# Altium footprint library ESP-WROOM-32.PcbLib: 2 footprints
Each footprint in its own frame and in the unit in brackets; x right, y up, seen from the top. Pads: shape width x height; smd on the part's side, far side on the other; paste and mask are expansions set on the pad; w line width, h text height; cw(c..) or ccw(c..) is an arc to the next point about the centre after c.
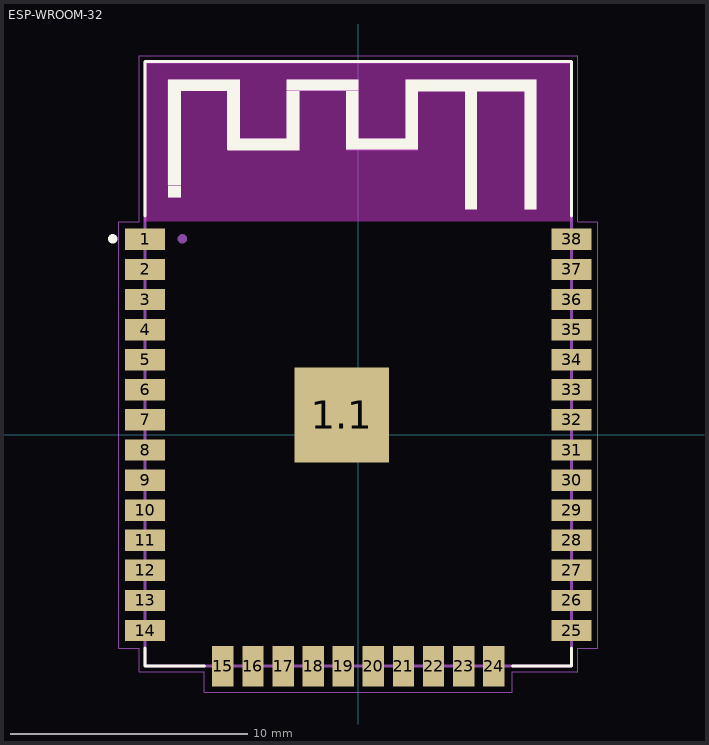
[diagram p0: the footprints below, top view; thin cyan lines are the x and y axes]

## ESP-WROOM-32 [mm]
pads (39):
  rect 1.7x0.9 smd: 1(-9,8.255) 2(-9,6.985) 3(-9,5.715) 4(-9,4.445) 5(-9,3.175) 6(-9,1.905) 7(-9,0.635) 8(-9,-0.635) 9(-9,-1.905) 10(-9,-3.175) 11(-9,-4.445) 12(-9,-5.715) 13(-9,-6.985) 14(-9,-8.255) 25(9,-8.255) 26(9,-6.985) 27(9,-5.715) 28(9,-4.445) 29(9,-3.175) 30(9,-1.905) 31(9,-0.635) 32(9,0.635) 33(9,1.905) 34(9,3.175) 35(9,4.445) 36(9,5.715) 37(9,6.985) 38(9,8.255)
  rect 4x4 smd: 1.1(-0.7,0.845)
  rect 0.9x1.7 smd: 15(-5.715,-9.755) 16(-4.445,-9.755) 17(-3.175,-9.755) 18(-1.905,-9.755) 19(-0.635,-9.755) 20(0.635,-9.755) 21(1.905,-9.755) 22(3.175,-9.755) 23(4.445,-9.755) 24(5.715,-9.755)
Top Overlay:
  circle w0.2: c-10.365,8.275 r0.1
  region: 2.008,15 2.5,15 2.5,13.554 2.008,13.554
  region: -8.02,10.5 -7.5,10.5 -7.5,10.025 -8.02,10.025
  region: 4.508,10 5,10 5,9.517 4.508,9.517
  region: 7.019,10 7.5,10 7.5,9.526 7.019,9.526
  region: 4.514,15 5,15 5,10.031 4.514,10.031
  region: 7.021,15 7.5,15 7.5,10.03 7.021,10.03
  region: 2.012,15 7.5,15 7.5,14.514 2.012,14.514
  region: 2.009,14.5 2.5,14.5 2.5,12.053 2.009,12.053
  region: -0.502,12.5 2.5,12.5 2.5,12.05 -0.502,12.05
  region: -0.502,14.5 0,14.5 0,12.049 -0.502,12.049
  region: -3.01,15 0,15 0,14.549 -3.01,14.549
  region: -3.01,14.5 -2.5,14.5 -2.5,12.041 -3.01,12.041
  region: -5.508,12.5 -2.5,12.5 -2.5,12.018 -5.508,12.018
  region: -5.522,14.5 -5,14.5 -5,12.047 -5.522,12.047
  region: -8.009,15 -5,15 -5,14.516 -8.009,14.516
  region: -8.022,15 -7.5,15 -7.5,10.529 -8.022,10.529
  lines w0.127: -9,-9 -9,-9.75 -6.5,-9.75 ; -9,9.25 -9,15.75 9,15.75 9,9.25 ; 6.5,-9.75 9,-9.75 9,-9
Keep-Out Layer:
  region: -9.024,15.75 9,15.75 9,9.024 -9.024,9.024
  region: -9.012,15.75 9,15.75 9,9.012 -9.012,9.012
  region: -9.026,15.75 9,15.75 9,9.026 -9.026,9.026
  region: -9.024,15.75 9,15.75 9,9.024 -9.024,9.024
  region: -9.012,15.75 9,15.75 9,9.012 -9.012,9.012
  region: -9.026,15.75 9,15.75 9,9.026 -9.026,9.026
  region: -9.024,15.75 9,15.75 9,9.024 -9.024,9.024
  region: -9.012,15.75 9,15.75 9,9.012 -9.012,9.012
  region: -9.026,15.75 9,15.75 9,9.026 -9.026,9.026
Mechanical 4:
  circle w0.2: c-7.425,8.275 r0.1
  circle w0.2: c-7.425,8.275 r0.1
  region: 2.008,15 2.5,15 2.5,13.551 2.008,13.551
  region: -8.027,10.5 -7.5,10.5 -7.5,10.033 -8.027,10.033
  region: 4.523,10 5,10 5,9.548 4.523,9.548
  region: 7.022,10 7.5,10 7.5,9.529 7.022,9.529
  region: 4.515,15 5,15 5,10.033 4.515,10.033
  region: 7.026,15 7.5,15 7.5,10.037 7.026,10.037
  region: 2.015,15 7.5,15 7.5,14.541 2.015,14.541
  region: 2.008,14.5 2.5,14.5 2.5,12.046 2.008,12.046
  region: -0.501,12.5 2.5,12.5 2.5,12.012 -0.501,12.012
  region: -0.502,14.5 0,14.5 0,12.04 -0.502,12.04
  region: -3.006,15 0,15 0,14.531 -3.006,14.531
  region: -3.01,14.5 -2.5,14.5 -2.5,12.041 -3.01,12.041
  region: -5.516,12.5 -2.5,12.5 -2.5,12.034 -5.516,12.034
  region: -5.518,14.5 -5,14.5 -5,12.04 -5.518,12.04
  region: -8.041,15 -5,15 -5,14.574 -8.041,14.574
  region: -8.038,15 -7.5,15 -7.5,10.55 -8.038,10.55
  region: 2.008,15 2.5,15 2.5,13.551 2.008,13.551
  region: -8.027,10.5 -7.5,10.5 -7.5,10.033 -8.027,10.033
  region: 4.523,10 5,10 5,9.548 4.523,9.548
  region: 7.022,10 7.5,10 7.5,9.529 7.022,9.529
  region: 4.515,15 5,15 5,10.033 4.515,10.033
  region: 7.026,15 7.5,15 7.5,10.037 7.026,10.037
  region: 2.015,15 7.5,15 7.5,14.541 2.015,14.541
  region: 2.008,14.5 2.5,14.5 2.5,12.046 2.008,12.046
  region: -0.501,12.5 2.5,12.5 2.5,12.012 -0.501,12.012
  region: -0.502,14.5 0,14.5 0,12.04 -0.502,12.04
  region: -3.006,15 0,15 0,14.531 -3.006,14.531
  region: -3.01,14.5 -2.5,14.5 -2.5,12.041 -3.01,12.041
  region: -5.516,12.5 -2.5,12.5 -2.5,12.034 -5.516,12.034
  region: -5.518,14.5 -5,14.5 -5,12.04 -5.518,12.04
  region: -8.041,15 -5,15 -5,14.574 -8.041,14.574
  region: -8.038,15 -7.5,15 -7.5,10.55 -8.038,10.55
  lines w0.127: -9,-9.755 -9,15.745 ; -9,-9.755 9,-9.755 ; -9,-9.755 -9,15.745 ; -9,-9.755 9,-9.755 ; -9,15.745 9,15.745 ; -9,15.745 9,15.745 ; 9,-9.755 9,15.745 ; 9,-9.755 9,15.745
Mechanical 16:
  lines w0.05: -10.1,-9 -10.1,9 -9.25,9 -9.25,16 9.25,16 9.25,9 10.1,9 10.1,-9 9.25,-9 9.25,-10 6.5,-10 6.5,-10.855 -6.5,-10.855 -6.5,-10 -9.25,-10 -9.25,-9 -10.1,-9

## PCBComponent_1 [mm]